# Altium integrated library Capacitor_SMD_1206.IntLib: 1 symbol
Pins are listed as number, name and electrical type; pins without a type are passive.

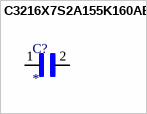
[diagram p0: symbol C3216X7S2A155K160AB]

## C3216X7S2A155K160AB
designator C?
1.5 ÂµF Â±10% 100V Ceramic Capacitor X7S 1206 (3216 Metric); MP: C3216X7S2A155K160AB; MF: TDK; SnapEDA_Link: https://www.snapeda.com/parts/C3216X7S2A155K160AB/TDK/view-part/?ref=snap; Value: *; Check_prices: https://www.snapeda.com/parts/C3216X7S2A155K160AB/TDK/view-part/?ref=eda; Purchase-URL: https://pricing.snapeda.com/search/part/C3216X7S2A155K160AB/?ref=eda; Package: 3216 TDK; Digi-Key_Part_Number: 445-14816-1-ND
footprint CAPC3216X180N
pins: 1, 2